# Altium footprint library cocube_maix.PcbLib: 23 footprints (part 1 of 2)
Each footprint in its own frame and in the unit in brackets; x right, y up, seen from the top. Pads: shape width x height; smd on the part's side, far side on the other; paste and mask are expansions set on the pad; w line width, h text height; cw(c..) or ccw(c..) is an arc to the next point about the centre after c.
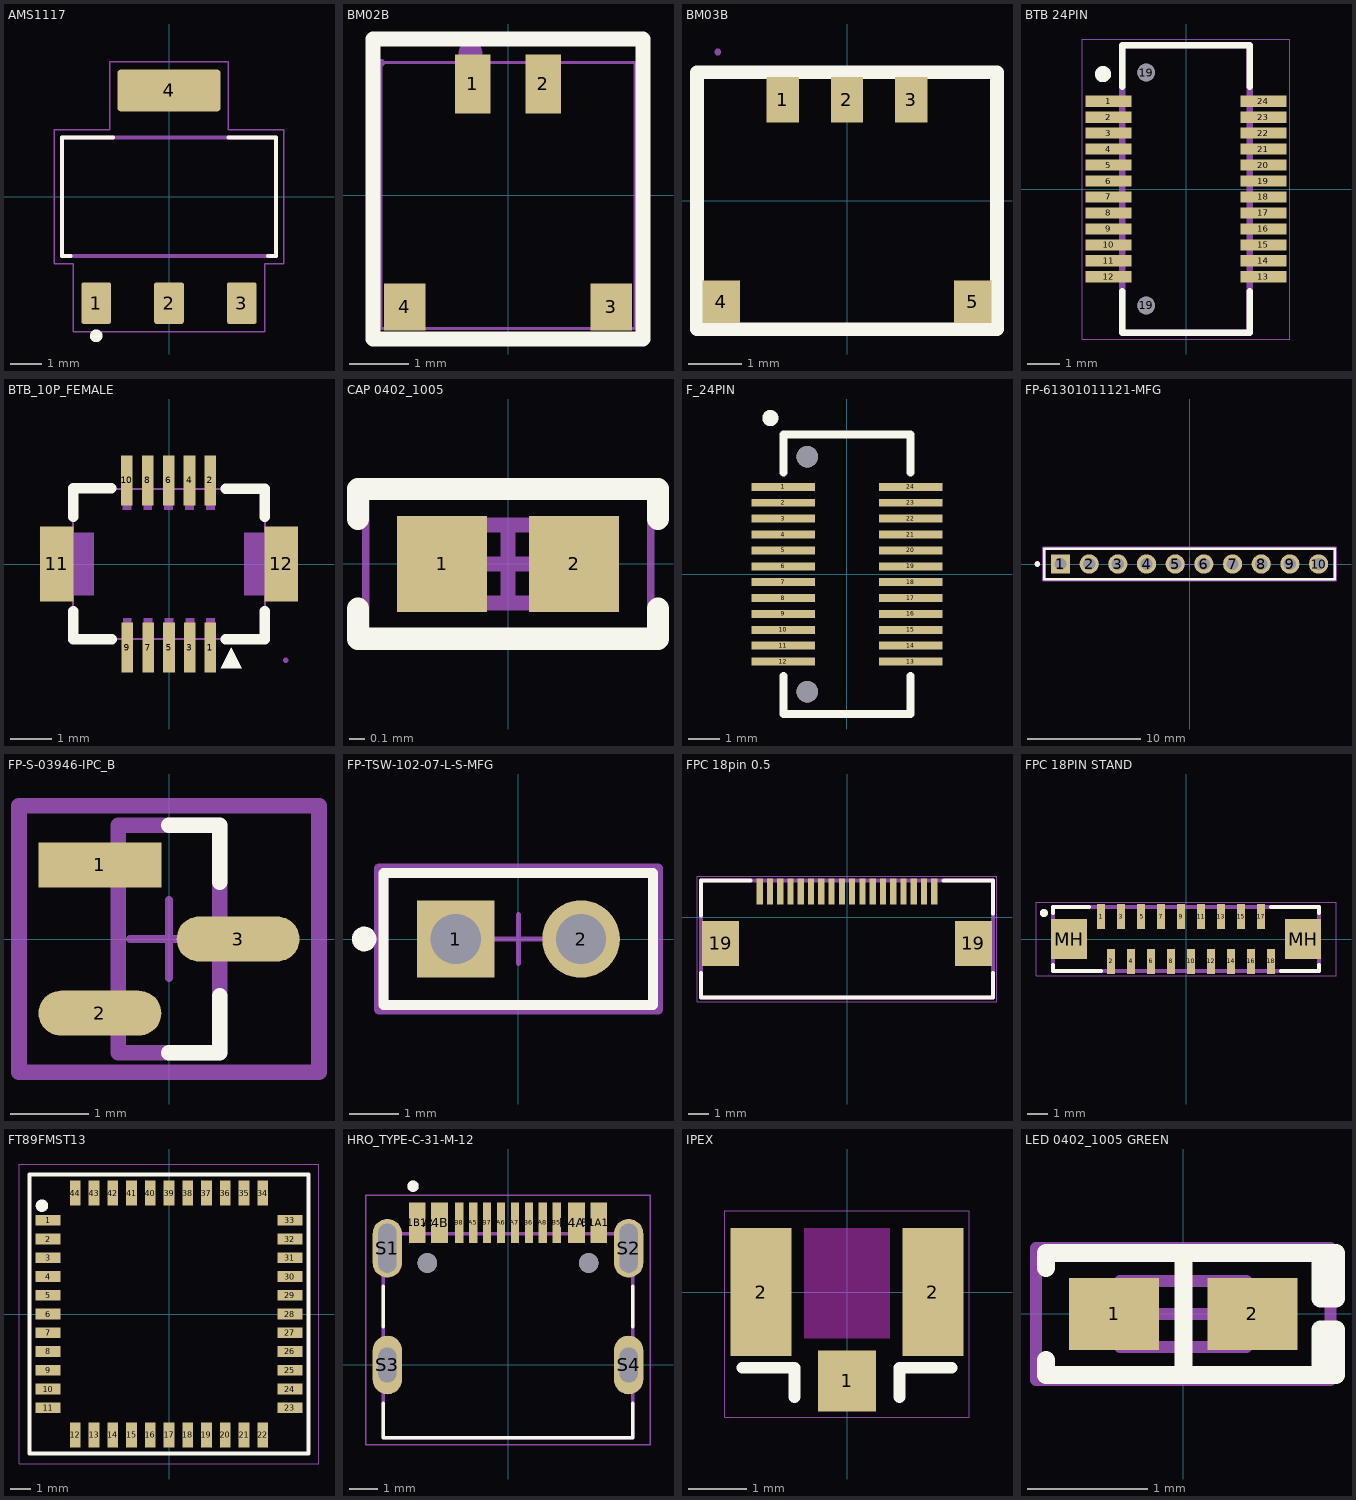
[diagram p0: the footprints below, top view; thin cyan lines are the x and y axes]

## AMS1117 [mm] "SOT229P700X180-4N"
height 1.7
pads (4):
  rrect15% 0.93x1.31 smd: 1(-2.29,-3.345) 2(0,-3.345) 3(2.29,-3.345)
  rrect15% 3.24x1.31 smd: 4(0,3.345)
Top Overlay:
  circle w0.2: c-2.29,-4.373 r0.1
  lines w0.127: -3.1,-1.86 -3.36,-1.86 -3.36,1.86 -1.76,1.86 ; 1.87,1.86 3.36,1.86 3.36,-1.86 3.11,-1.86
Top 3D Body (Mech13):
  lines w0.127: -3.36,-1.86 -3.36,1.86 3.36,1.86 3.36,-1.86 -3.36,-1.86
Mechanical 15:
  lines w0.05: -3.61,-2.11 -3.61,2.11 -1.87,2.11 -1.87,4.25 1.87,4.25 1.87,2.11 3.61,2.11 3.61,-2.11 3.01,-2.11 3.01,-4.25 -3.01,-4.25 -3.01,-2.11 -3.61,-2.11
3D body "step_temp.STEP": height 1.78, standoff -0.03, extent -3.251,-3.499 3.251,3.499

## BM02B [mm]
pads (4):
  rect 0.6x1 smd mask+0.051: 1(-0.6,1.888) 2(0.6,1.888)
  rect 0.7x0.8 smd mask+0.051: 3(1.75,-1.888) 4(-1.75,-1.888)
Top Overlay:
  lines w0.254: -2.286,-2.431 2.286,-2.431 2.286,2.649 -2.286,2.649 -2.286,-2.431
Mechanical 6:
  circle w0.2: c-0.635,2.413 r0.1
Mechanical 15:
  region: -2.21,2.25 -2.21,2.225 -2.175,2.19 -2.125,2.19 -2.09,2.225 -2.09,2.25 -2.09,2.275 -2.125,2.31 -2.175,2.31 -2.21,2.275 -2.21,2.25
  region: -0.725,2.25 -0.475,2.25 -0.475,1.75 -0.725,1.75
  region: 0.475,2.25 0.725,2.25 0.725,1.75 0.475,1.75
  region: -1.85,-1.787 -1.65,-1.787 -1.65,-1.987 -1.85,-1.987
  region: 1.65,-1.787 1.85,-1.787 1.85,-1.987 1.65,-1.987
  lines w0.051: -2.15,-2.25 -2.15,2.25 2.15,2.25 2.15,-2.25 -2.15,-2.25
3D body: height 1.4, standoff 0, extent -2.1,-2.3 2.1,2.204

## BM03B [mm]
pads (5):
  rect 0.6x0.85 smd mask+0.051: 1(-1.2,1.888) 2(0,1.887) 3(1.2,1.888)
  rect 0.7x0.8 smd mask+0.051: 4(-2.35,-1.887) 5(2.35,-1.887)
Top Overlay:
  lines w0.254: -2.8,-2.4 -2.8,2.4 2.8,2.4 2.8,-2.4 -2.8,-2.4
Mechanical 15:
  region: -2.473,2.777 -2.473,2.752 -2.438,2.717 -2.388,2.717 -2.353,2.752 -2.353,2.777 -2.353,2.801 -2.388,2.837 -2.438,2.837 -2.473,2.801 -2.473,2.777
3D body: height 1.4, standoff 0, extent -2.7,-2.3 2.7,2.205

## BTB 24PIN [mm] "OCN OK-208GF024-05"
pads (26):
  rect 1.45x0.35 smd: 1(-2.425,2.75) 2(-2.425,2.25) 3(-2.425,1.75) 4(-2.425,1.25) 5(-2.425,0.75) 6(-2.425,0.25) 7(-2.425,-0.25) 8(-2.425,-0.75) 9(-2.425,-1.25) 10(-2.425,-1.75) 11(-2.425,-2.25) 12(-2.425,-2.75) 13(2.425,-2.75) 14(2.425,-2.25) 15(2.425,-1.75) 16(2.425,-1.25) 17(2.425,-0.75) 18(2.425,-0.25) 19(2.425,0.25) 20(2.425,0.75) 21(2.425,1.25) 22(2.425,1.75) 23(2.425,2.25) 24(2.425,2.75)
  round 0.55 hole 0.55 unplated paste+0 mask+0: 19(-1.25,3.65) 19(-1.25,-3.65)
Top Overlay:
  circle w0.254: c-2.6,3.6 r0.127
  lines w0.2: -2,-3.2 -2,-4.5 2,-4.5 2,-3.2 ; -2,3.2 -2,4.5 2,4.5 2,3.2
Top Assembly:
  lines w0.2: 2,-4.5 2,4.5 -2,4.5 -2,-4.5 2,-4.5 ; 2,-4.5 2,-4.5
  text "'.Designator'" at 0.442,-1.425 h1
Top Courtyard:
  lines w0.01: -3.25,-4.7 -3.25,4.7 3.25,4.7 3.25,-4.7 -3.25,-4.7
3D body: height 3, standoff 0, extent -2,-4.5 2,4.5

## BTB_10P_FEMALE [mm]
pads (12):
  rect 0.28x1.2 smd mask+0.051: 1(0.991,-2) 2(0.991,2) 3(0.5,-2) 4(0.491,2) 5(0,-2) 6(-0.009,2) 7(-0.5,-2) 8(-0.509,2) 9(-1,-2) 10(-1.009,2)
  rect 0.8x1.8 smd mask+0.051: 11(-2.691,0.003) 12(2.691,0.001)
Top Overlay:
  region: 1.241,-2.5 1.741,-2.5 1.491,-2
  lines w0.254: -2.291,-1.128 -2.291,-1.8 -1.371,-1.8 ; -2.291,1.134 -2.291,1.81 -1.38,1.81 ; 1.358,-1.8 2.291,-1.8 2.291,-1.128 ; 1.362,1.8 2.291,1.8 2.291,1.134
Mechanical 15:
  region: 1.8,0.751 2.8,0.751 2.8,-0.749 1.8,-0.749
  region: -1.8,-0.747 -2.8,-0.747 -2.8,0.753 -1.8,0.753
  region: -0.909,2.3 -0.909,1.3 -1.109,1.3 -1.109,2.3
  region: -0.9,-1.3 -0.9,-2.3 -1.1,-2.3 -1.1,-1.3
  region: -0.409,2.3 -0.409,1.3 -0.609,1.3 -0.609,2.3
  region: -0.4,-1.3 -0.4,-2.3 -0.6,-2.3 -0.6,-1.3
  region: 0.091,2.3 0.091,1.3 -0.109,1.3 -0.109,2.3
  region: 0.1,-1.3 0.1,-2.3 -0.1,-2.3 -0.1,-1.3
  region: 0.591,2.3 0.591,1.3 0.391,1.3 0.391,2.3
  region: 1.091,2.3 1.091,1.3 0.891,1.3 0.891,2.3
  region: 0.6,-1.3 0.6,-2.3 0.4,-2.3 0.4,-1.3
  region: 1.091,-1.3 1.091,-2.3 0.891,-2.3 0.891,-1.3
  region: 2.86,-2.3 2.86,-2.275 2.825,-2.24 2.775,-2.24 2.74,-2.275 2.74,-2.3 2.74,-2.325 2.775,-2.36 2.825,-2.36 2.86,-2.325 2.86,-2.3
  lines w0.051: -2.3,-1.8 2.3,-1.8 2.3,1.8 -2.3,1.8 -2.3,-1.8
3D body: height 2.2, standoff 0, extent -2.3,-1.8 2.3,1.8

## CAP 0402_1005 [mm]
pads (2):
  rect 0.6x0.64 smd: 1(-0.44,0) 2(0.44,0)
Top Overlay:
  lines w0.15: -1,-0.3 -1,-0.5 1,-0.5 1,-0.3 ; -1,0.3 -1,0.5 1,0.5 1,0.3
Top 3D Body (Mech13):
  lines w0.1: -0.515,-0.26 0.515,-0.26 0.515,0.26 -0.515,0.26 -0.515,-0.26
Mechanical 15:
  lines w0.05: -0.95,-0.5 0.95,-0.5 0.95,0.5 -0.95,0.5 -0.95,-0.5
  lines w0.1: -0.26,0 0.26,0 ; 0,-0.26 0,0.26
3D body "0402 cap.STEP": height 0.52, standoff 0, extent -0.5,-0.262 0.5,0.262

## F_24PIN [mm]
pads (24):
  rect 2x0.25 smd: 1(-2,2.75) 2(-2,2.25) 3(-2,1.75) 4(-2,1.25) 5(-2,0.75) 6(-2,0.25) 7(-2,-0.25) 8(-2,-0.75) 9(-2,-1.25) 10(-2,-1.75) 11(-2,-2.25) 12(-2,-2.75) 13(2,-2.75) 14(2,-2.25) 15(2,-1.75) 16(2,-1.25) 17(2,-0.75) 18(2,-0.25) 19(2,0.25) 20(2,0.75) 21(2,1.25) 22(2,1.75) 23(2,2.25) 24(2,2.75)
via -1.25,-3.7 diameter 0.67 hole 0.67
via -1.25,3.7 diameter 0.67 hole 0.67
Top Overlay:
  circle w0.254: c-2.413,4.918 r0.127
  lines w0.254: -2,-3.2 -2,-4.4 2,-4.4 2,-3.2 ; -2,3.2 -2,4.4 2,4.4 2,3.2

## FP-61301011121-MFG [mm]
pads (10):
  rect 1.7x1.7 hole 1.1 paste-1000 mask+0: 1(-11.43,0)
  round 1.7 hole 1.1 paste-1000 mask+0: 2(-8.89,0) 3(-6.35,0) 4(-3.81,0) 5(-1.27,0) 6(1.27,0) 7(3.81,0) 8(6.35,0) 9(8.89,0) 10(11.43,0)
Top Overlay:
  circle w0.25: c-13.475,0 r0.125
  lines w0.2: -12.875,-1.345 12.875,-1.345 12.875,1.345 -12.875,1.345 -12.875,-1.345
Top Assembly:
  lines w0.2: -12.975,-1.445 12.975,-1.445 12.975,1.445 -12.975,1.445 -12.975,-1.445
  text ".Designator" at 0,0.188 h1
Top Courtyard:
  lines w0.2: -12.975,-1.445 12.975,-1.445 12.975,1.445 -12.975,1.445 -12.975,-1.445
Top 3D Body (Mech13):
  lines w0.2: -12.875,-1.345 12.875,-1.345 12.875,1.345 -12.875,1.345 -12.875,-1.345
Top Component Center:
  lines w0.1: -0.5,0 0.5,0 ; 0,-0.5 0,0.5
3D body "IC_Wurth_Electronics_61301011121_eec.STEP": height 0.25, standoff 0, extent -12.975,-1.445 12.975,1.445

## FP-S-03946-IPC_B [mm]
pads (3):
  rect 1.574x0.576 smd paste+0 mask+0: 1(-0.885,0.95)
  rrect100% 1.574x0.576 smd paste+0 mask+0: 2(-0.885,-0.95) 3(0.885,0)
Top Overlay:
  lines w0.2: 0,-1.46 0.65,-1.46 0.65,-0.73 ; 0,1.46 0.65,1.46 0.65,0.73
Top Assembly:
  lines w0.2: -1.922,-1.71 -1.922,1.71 1.922,1.71 1.922,-1.71 -1.922,-1.71
  text ".Designator" at 0,-0.001 h1
Top Courtyard:
  lines w0.2: -1.922,-1.71 -1.922,1.71 1.922,1.71 1.922,-1.71 -1.922,-1.71
Top 3D Body (Mech13):
  lines w0.2: -0.65,-1.46 -0.65,1.46 0.65,1.46 0.65,-1.46 -0.65,-1.46
Top Component Center:
  lines w0.1: -0.5,0 0.5,0 ; 0,-0.5 0,0.5
3D body "Trans_Vishay_SI2318DS-T1-E3_eec.STEP": height 0.25, standoff 0, extent -1.922,-1.71 1.922,1.71

## FP-TSW-102-07-L-S-MFG [mm]
pads (2):
  rect 1.57x1.57 hole 1.02 paste-1000 mask+0: 1(-1.27,0)
  round 1.57 hole 1.02 paste-1000 mask+0: 2(1.27,0)
Top Overlay:
  circle w0.25: c-3.125,0 r0.125
  lines w0.2: -2.73,-1.335 -2.73,1.335 2.73,1.335 2.73,-1.335 -2.73,-1.335
Top Assembly:
  lines w0.2: -2.83,-1.435 -2.83,1.435 2.83,1.435 2.83,-1.435 -2.83,-1.435
  text ".Designator" at 0,0.188 h1
Top Courtyard:
  lines w0.2: -2.83,-1.435 -2.83,1.435 2.83,1.435 2.83,-1.435 -2.83,-1.435
Top 3D Body (Mech13):
  lines w0.2: -2.73,-1.335 -2.73,1.335 2.73,1.335 2.73,-1.335 -2.73,-1.335
Top Component Center:
  lines w0.1: -0.5,0 0.5,0 ; 0,-0.5 0,0.5
3D body "Conn_SAMTEC_TSW-102-07-L-S_eec.STEP": height 0.25, standoff 0, extent -2.83,-1.435 2.83,1.435

## FPC 18pin 0.5 [mm] "HDGC 0.5K-DX-18PWB"
height 8.54
pads (20):
  rect 0.3x1.25 smd: 1(-4.25,1.262) 2(-3.75,1.262) 3(-3.25,1.262) 4(-2.75,1.262) 5(-2.25,1.262) 6(-1.75,1.262) 7(-1.25,1.262) 8(-0.75,1.262) 9(-0.25,1.262) 10(0.25,1.262) 11(0.75,1.262) 12(1.25,1.262) 13(1.75,1.262) 14(2.25,1.262) 15(2.75,1.262) 16(3.25,1.262) 17(3.75,1.262) 18(4.25,1.262)
  rect 1.8x2.2 smd: 19(-6.15,-1.262) 19(6.15,-1.262)
Top Overlay:
  lines w0.2: -7.1,-2.7 -7.1,-3.9 7.1,-3.9 7.1,-2.7 ; -7.1,0.1 -7.1,1.8 -4.7,1.8 ; 4.7,1.8 7.1,1.8 7.1,0.2
Top Assembly:
  lines w0.2: -7.1,-3.9 -7.1,1.8 7.1,1.8 7.1,-3.9 -7.1,-3.9
  text "'.Designator'" at -3.825,-1.542 h1
Top Courtyard:
  lines w0.01: -7.3,-4.1 -7.3,2 7.3,2 7.3,-4.1 -7.3,-4.1
3D body: height 2, standoff 0, extent -7.2,-4 7.2,1.2

## FPC 18PIN STAND [mm] "HDGC 0.5K-A-18PBF"
pads (20):
  rect 0.4x1.25 smd: 1(-4.25,1.125) 2(-3.75,-1.125) 3(-3.25,1.125) 4(-2.75,-1.125) 6(-1.75,-1.125) 7(-1.25,1.125) 8(-0.75,-1.125) 9(-0.25,1.125) 10(0.25,-1.125) 11(0.75,1.125) 12(1.25,-1.125) 13(1.75,1.125) 14(2.25,-1.125) 15(2.75,1.125) 16(3.25,-1.125) 17(3.75,1.125) 18(4.25,-1.125) " 5"(-2.25,1.125)
  rect 1.8x2 smd: MH(-5.85,0) MH(5.85,0)
Top Overlay:
  circle w0.2: c-7.1,1.3 r0.1
  lines w0.2: -6.65,-1.3 -6.65,-1.6 -4.25,-1.6 ; -6.65,1.3 -6.65,1.6 -4.85,1.6 ; 4.25,1.6 6.65,1.6 6.65,1.3 ; 4.75,-1.6 6.65,-1.6 6.65,-1.3
Top Assembly:
  lines w0.2: -6.65,-1.6 -6.65,1.6 6.65,1.6 6.65,-1.6 -6.65,-1.6
  text "'.Designator'" at -1.45,-0.367 h1
Top Courtyard:
  lines w0.01: -7.5,-1.85 7.5,-1.85 7.5,1.85 -7.5,1.85 -7.5,-1.85
3D body: height 4.5, standoff 0, extent -7.4,-1 7.4,1

## FT89FMST13 [mm] "wifi module"
pads (44):
  rect 1.2x0.51 smd: 1(-5.8,4.5) 2(-5.8,3.6) 3(-5.8,2.7) 4(-5.8,1.8) 5(-5.8,0.9) 6(-5.8,0) 7(-5.8,-0.9) 8(-5.8,-1.8) 9(-5.8,-2.7) 10(-5.8,-3.6) 11(-5.8,-4.5) 23(5.8,-4.5) 24(5.8,-3.6) 25(5.8,-2.7) 26(5.8,-1.8) 27(5.8,-0.9) 28(5.8,0) 29(5.8,0.9) 30(5.8,1.8) 31(5.8,2.7) 32(5.8,3.6) 33(5.8,4.5)
  rect 0.51x1.2 smd: 12(-4.5,-5.8) 13(-3.6,-5.8) 14(-2.7,-5.8) 15(-1.8,-5.8) 16(-0.9,-5.8) 17(0,-5.8) 18(0.9,-5.8) 19(1.8,-5.8) 20(2.7,-5.8) 21(3.6,-5.8) 22(4.5,-5.8) 34(4.5,5.8) 35(3.6,5.8) 36(2.7,5.8) 37(1.8,5.8) 38(0.9,5.8) 39(0,5.8) 40(-0.9,5.8) 41(-1.8,5.8) 42(-2.7,5.8) 43(-3.6,5.8) 44(-4.5,5.8)
Top Overlay:
  circle w0.3: c-6.1,5.2 r0.15
  lines w0.2: -6.7,-6.7 -6.7,6.7 6.7,6.7 6.7,6.569 6.7,-6.7 -6.7,-6.7
Top Courtyard:
  lines w0.01: -7.2,-7.2 -7.2,7.2 7.2,7.2 7.2,-7.2 -7.2,-7.2
3D body: height 2.6, standoff 0, extent -6,-6 6,6

## HRO_TYPE-C-31-M-12 [mm]
pads (18):
  rect 0.6x1.45 smd: A1B12(-3.25,5.095) A4B9(-2.45,5.095) B1A12(3.25,5.095) B4A9(2.45,5.095)
  rect 0.3x1.45 smd: A5(-1.25,5.095) A6(-0.25,5.095) A7(0.25,5.095) A8(1.25,5.095) B5(1.75,5.095) B6(0.75,5.095) B7(-0.75,5.095) B8(-1.75,5.095)
  oval 1.05x2.1 hole 0.65 slot 1.75 at 90 deg: S1(-4.32,4.18) S2(4.32,4.18)
  oval 1.05x2.1 hole 0.65 slot 1.25 at 90 deg: S3(-4.32,0) S4(4.32,0)
  round 0.7 hole 0.7 unplated: ""(-2.89,3.65) ""(2.89,3.65)
Top Overlay:
  circle w0.2: c-3.4,6.4 r0.1
  lines w0.127: -4.47,-1.37 -4.47,-2.6 4.47,-2.6 4.47,-1.37 ; -4.47,1.37 -4.47,2.81 ; 4.47,1.37 4.47,2.81
Top 3D Body (Mech13):
  circle w0.2: c-3.4,6.4 r0.1
  lines w0.127: -4.47,-2.6 4.47,-2.6 4.47,4.7 -4.47,4.7 -4.47,-2.6
Mechanical 15:
  lines w0.05: -5.095,-2.85 5.095,-2.85 5.095,6.07 -5.095,6.07 -5.095,-2.85
3D body "step_temp.STEP": height 3.31, standoff -0.99, extent -4.47,-2.6 4.47,5.305

## IPEX [mm]
pads (3):
  rect 1x1.05 smd: 1(0,-1.525)
  rect 1.05x2.2 smd: 2(-1.475,0) 2(1.475,0)
Top Overlay:
  lines w0.2: -1.8,-1.3 -0.9,-1.3 -0.9,-1.8 ; 0.9,-1.8 0.9,-1.3 1.8,-1.3
Keep-Out Layer:
  region: -0.737,1.1 0.737,1.1 0.737,-0.787 -0.737,-0.787
Top Courtyard:
  lines w0.01: -2.1,-2.15 2.1,-2.15 2.1,1.4 -2.1,1.4 -2.1,-2.15
3D body: height 1.25, standoff 0, extent -1.3,-1.3 1.3,1.3

## LED 0402_1005 GREEN [mm]
pads (2):
  rect 0.75x0.6 smd: 1(-0.575,0) 2(0.575,0)
Top Overlay:
  lines w0.15: -1.143,-0.381 -1.143,-0.508 1.143,-0.508 ; -1.143,0.381 -1.143,0.508 1.143,0.508 ; 0,-0.508 0,0.508 ; 1.143,-0.508 1.143,-0.127 1.27,-0.127 1.27,-0.508 1.143,-0.508 ; 1.143,0.508 1.143,0.127 1.27,0.127 1.27,0.508 1.143,0.508
Top 3D Body (Mech13):
  lines w0.1: -0.525,-0.275 0.525,-0.275 0.525,0.275 -0.525,0.275 -0.525,-0.275
Mechanical 15:
  lines w0.1: -0.275,0 0.275,0 ; 0,-0.275 0,0.275 ; -1.225,-0.55 1.225,-0.55 1.225,0.55 -1.225,0.55 -1.225,-0.55
3D body "LED 0402 Base GREEN.STEP": height 0.1, standoff 0, extent -0.5,-0.25 0.5,0.25
3D body "LED 0402 Lens GREEN.STEP": height 0.21, standoff 0.08, extent -0.35,-0.25 0.35,0.25